# EAGLE library part ZXMHC3F381N8 (library ZXMHC3F381N8)
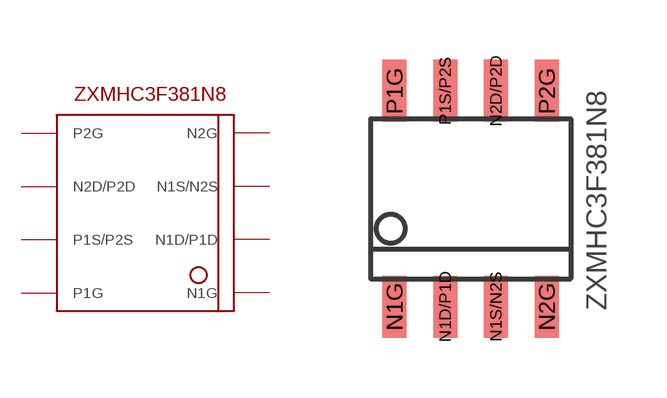
[diagram p0: symbol with the pads of ZXMHC3F381N8; footprint ZXMHC3F381N8]

Designator prefix -

## ZXMHC3F381N8  [ZXMHC3F381N8]
N1D/P1D  N1D/P1D
N1G  N1G
N1S/N2S  N1S/N2S
N2D/P2D  N2D/P2D
N2G  N2G
P1G  P1G
P1S/P2S  P1S/P2S
P2G  P2G

## Footprint ZXMHC3F381N8 (pad centres in mm)
smd 0.6 x 1.55: N1D/P1D -0.635,-2.7; N1G -1.905,-2.7; N1S/N2S 0.635,-2.7; N2D/P2D 0.635,2.7; N2G 1.905,-2.7; P1G -1.905,2.7; P1S/P2S -0.635,2.7; P2G 1.905,2.7